# Altium schematic symbol library PBL - Inductors.SCHLIB: 28 symbols
Pins are listed as number, name and electrical type; pins without a type are passive.

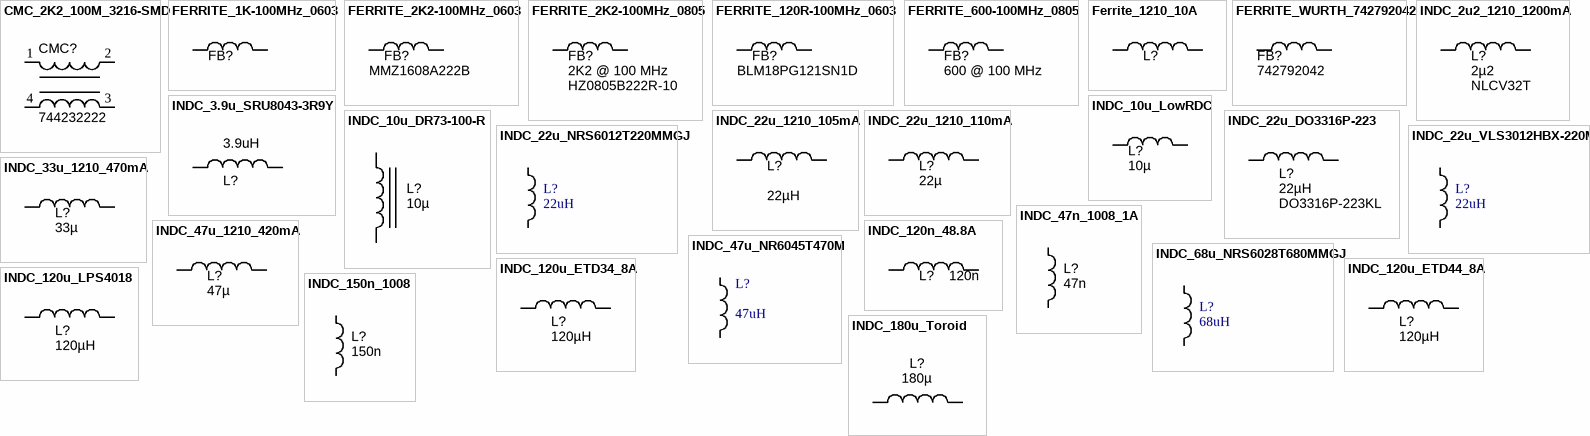
[diagram p0: symbols CMC_2K2_100M_3216-SMD to INDC_180u_Toroid]

## CMC_2K2_100M_3216-SMD
designator CMC?, comment 744232222
Common Mode Choke 2.2K Ohm 1206 SMD; Manufacturer 1: Wurth Electronics Inc; Impedance: 2200 Ohm at 100 MHz; Ratings: 2.2k Ohms at 100MHz; SCDType: source; PackageDescription: SMD Inductor, 4-Leads, Body 1.8 x 3.4 mm; Supplier 1: Digi-Key; Supplier Part Number 1: 732-1474-1-ND; ComponentLink1URL: http://katalog.we-online.de/kataloge/eisos/media/pdf/744232222.pdf; ComponentLink1Description: 744232222 datasheet; Manufacturer Part Number 1: 744232222; Package / Case: Horizontal, 4 PC Pad; Height (Max): 0.083" (2.10mm)
footprint CHOKE_CM_1206SMD (Common-mode choke, Body 3.4x1.8x2.2mm)
pins: 1, 2, 3, 4

## FERRITE_1K-100MHz_0603
designator FB?, comment MPZ1608S102ATA00  (value not drawn)
1 kOhm Impedance Ferrite Bead 0603 (1608 Metric) Surface Mount Power Line 800mA 1 Lines 300 mOhm Max DCR -55°C ~ 125°C; Supplier 1: Digi-Key; Supplier Part Number 1: 445-8694-1-ND
footprint FBC1608X95N (Chip Ferrite, Body 1.6x0.8mm, 0603, IPC Medium Density)
pins: 1, 2

## FERRITE_2K2-100MHz_0603
designator FB?, comment Manufacturer Part Number 1: MMZ1608A222B  (hidden comment: 2K2 @ 100 MHz)
Ferrite bead 2.2K Ohm at 100 MHz 200mA 0603 SMD; Manufacturer 1: TDK Corporation; Ratings: 200 mA; 800 mOhm DC; Impedance @ Frequency: 2200 Ohm @ 100MHz; DC Resistance (DCR): 800 mOhm Max; Filter Type: Differential Mode - Single; SCDType: source; Size / Dimension: 0.063" L x 0.031" W (1.60mm x 0.80mm); Current Rating: 200mA; Package / Case: 0603 (1608 Metric); Height (Max): 0.037" (0.95mm); Mounting Type: Surface Mount; Supplier 1: Digi-Key; Supplier Part Number 1: 445-8671-1-ND; RoHS 1: RoHS Compliant; ComponentLink1URL: http://www.tdk.co.jp/tefe02/e9412_mmz.pdf; ComponentLink1Description: http://www.tdk.co.jp/tefe02/e9412_mmz.pdf; Value: 2K2 @ 100 MHz
footprint FBC1608X95N (Chip Ferrite, Body 1.6x0.8mm, 0603, IPC Medium Density)
pins: 1, 2

## FERRITE_2K2-100MHz_0805
designator FB?, comment Manufacturer Part Number 1: HZ0805B222R-10  (hidden comment: 2K2 @ 100 MHz)
Ferrite bead 2.2K Ohm at 100 MHz 200mA 0805 SMD; Manufacturer 1: Laird-Signal Integrity Products; Ratings: 200 mA; 800 mOhm DC; Impedance @ Frequency: 600 Ohm @ 100MHz; DC Resistance (DCR): 800 mOhm Max; Filter Type: Differential Mode - Single; SCDType: source; Size / Dimension: 0.063" L x 0.031" W (1.60mm x 0.80mm); Current Rating: 200mA; Package / Case: 0805 (2012 Metric); Height (Max): 0.043" (1.09mm); ComponentLink1URL: http://www.lairdtech.com/WorkArea/linkit.aspx?LinkIdentifier=id&ItemID=4879; ComponentLink1Description: http://www.lairdtech.com/WorkArea/linkit.aspx?LinkIdentifier=id&ItemID=4879; Supplier 1: Digi-Key; Supplier Part Number 1: 240-2562-1-ND; Mounting Type: Surface Mount; Value: 2K2 @ 100 MHz
footprint FBC2012N (Ferrite Bead Chip, Body 2.0x1.2mm, 0805, IPC Medium Density)
pins: 1, 2

## FERRITE_120R-100MHz_0603
designator FB?, comment Manufacturer Part Number 1: BLM18PG121SN1D  (hidden comment: 120R @ 100 MHz)
Ferrite bead 120 Ohm at 100 MHz 2A 0603 SMD; Manufacturer 1: Murata Electronics North America; Current: 900mA; DC Resistance (DCR): 172.9 mOhm Max; Frequency - Self Resonant: 23MHz; Frequency - Test: 100kHz; Impedance @ Frequency: 120 Ohm @ 100MHz; Filter Type: Differential Mode - Single; Number of Lines: 1; Ratings: 2 A; 50 mO DC; SCDType: source; Current - Saturation: 900mA; Current - Temperature Rise: 900mA; Applications: Power Supplies; Package / Case: 1210 (3225 Metric); Operating Temperature: -40°C ~ 105°C; ComponentLink1URL: http://www.yuden.co.jp/ut/product/pdf/wound02_e.pdf; ComponentLink1Description: http://www.yuden.co.jp/ut/product/pdf/wound02_e.pdf; Supplier 1: Digi-Key; Supplier Part Number 1: 490-1037-1-ND; Current Rating: 2A; Mounting Type: Surface Mount; Height (Max): 0.037" (0.95mm); Size / Dimension: 0.063" L x 0.031" W (1.60mm x 0.80mm); ComponentLink2URL: http://search.murata.co.jp/Ceramy/image/img/PDF/ENG/L0110S0100BLM18P.pdf; ComponentLink2Description: http://search.murata.co.jp/Ceramy/image/img/PDF/ENG/L0110S0100BLM18P.pdf; Value: 120R @ 100 MHz
footprint INDC1608N (Chip bead, Body 1.6x0.8mm, 0603, IPC Medium Density)
pins: 1, 2

## FERRITE_600-100MHz_0805
designator FB?, comment value 600 @ 100 MHz  (hidden comment: MPZ2012S601AT000)
Ferrite bead 600 Ohm at 100 MHz 2A 0805 SMD; Ratings: 2 A; 100 mOhm DC; Impedance @ Frequency: 600 Ohm @ 100MHz; DC Resistance (DCR): 100 mOhm Max; Filter Type: Differential Mode - Single; SCDType: source; Size / Dimension: 0.063" L x 0.031" W (1.60mm x 0.80mm); Current Rating: 2A; Package / Case: 0805 (2012 Metric); Height (Max): 0.043" (1.09mm); ComponentLink1URL: http://www.lairdtech.com/WorkArea/linkit.aspx?LinkIdentifier=id&ItemID=4879; ComponentLink1Description: http://www.lairdtech.com/WorkArea/linkit.aspx?LinkIdentifier=id&ItemID=4879; Mounting Type: Surface Mount; Supplier 1: Digi-Key; Supplier Part Number 1: 445-2206-1-ND
footprint RESC2012X70N (Chip Resistor, Body 2.0x1.2mm, EIA 0805, IPC Medium Density)
pins: 1, 2

## Ferrite_1210_10A
designator L?, comment BRL3225T330K  (value not drawn)
FERRITE BEAD 30 OHM 1210 1LN; Manufacturer: Murata Electronics North America; Manufacturer Part Number: BLE32PN300SN1L; Filter Type: Power Line; Current Rating (Max): 10A; DC Resistance (DCR) (Max): 1.6 mOhm; Supplier 1: Digi-Key; Supplier Part Number 1: 490-9566-1-ND; RoHS: RoHS Compliant; Category: Filters; Stock 1: 52658; Pricing 1: 1=0.84, 10=0.756, 25=0.5604, 50=0.5324, 100=0.4763, 250=0.44828, 500=0.42026 (USD); Packaging: Cut Tape (CT); Part Status: Active; Ratings: -; Operating Temperature: -55°C ~ 125°C; Package / Case: 1210 (3225 Metric); Mounting Type: Surface Mount; Height (Max): 0.087" (2.20mm); Size / Dimension: 0.126" L x 0.098" W (3.20mm x 2.50mm); ComponentLink1URL: https://www.murata.com/en-us/products/productdata/8796742844446/ENFA0047.pdf; ComponentLink1Description: https://www.murata.com/en-us/products/productdata/8796742844446/ENFA0047.pdf
footprint INDC3225X170N (Chip Inductor, 2-Leads, Body 3.2x2.5mm, IPC Medium Density)
pins: 1, 2

## FERRITE_WURTH_742792042
designator FB?, comment Manufacturer Part Number 1: 742792042  (hidden comment: 600R @ 100 MHz)
Ferrite bead Wurth 742792042 SMD 200mA 0805; Manufacturer 1: WURTH ELEKTRONIK; Ratings: 200 mA; 500 mOhm DC; Impedance @ Frequency: 600 Ohm @ 100MHz; DC Resistance (DCR): 500 mOhm Max; Filter Type: Differential Mode - Single; SCDType: source; Size / Dimension: 0.063" L x 0.031" W (1.60mm x 0.80mm); Current Rating: 200mA; Package / Case: 0805 (2012 Metric); Height (Max): 0.041" (1.05mm); Value: 600R @ 100 MHz; Supplier 1: Newark; Supplier Part Number 1: 08P2373; ComponentLink1URL: http://katalog.we-online.de/kataloge/eisos/media/pdf/742792042.pdf; ComponentLink1Description: http://katalog.we-online.de/kataloge/eisos/media/pdf/742792042.pdf
footprint FBC2012N (Ferrite Bead Chip, Body 2.0x1.2mm, 0805, IPC Medium Density)
pins: 1, 2

## INDC_2u2_1210_1200mA
designator L?, comment NLCV32T  value 2µ2
Inductor 2.2uH 1.2A 1210 SMD chip; Manufacturer 1: TDK Corporation; Manufacturer Part Number 1: NLCV32T-2R2M-PFR; Ratings: 1.2 Adc; Tolerance: ±20%; Type: Ferrite Core; DC Resistance (DCR): 115 mOhm; Q @ Freq: 15 @ 7.96MHz; Frequency - Self Resonant: 68MHz; Frequency - Test: 7.96MHz; SCDType: source; Package / Case: 1210 (3225 Metric); Supplier 1: Digi-Key; Supplier Part Number 1: 445-3650-1-ND; ComponentLink1URL: http://www.tdk.co.jp/tefe02/e511_nlcv_nlc.pdf; ComponentLink1Description: http://www.tdk.co.jp/tefe02/e511_nlcv_nlc.pdf; Operating Temperature: -40°C ~ 125°C
footprint INDM3225X240N (Molded Inductor, 2-Leads, Body 3.2x2.5mm, IPC Medium Density)
pins: 1, 2

## INDC_3.9u_SRU8043-3R9Y
designator L?, comment value 3.9uH  (hidden comment: SRU8043-3R9Y)
Inductor shielded 3.9uH SRU8043-3R9Y; Tolerance: ±30%; Type: Ferrite Core; Supplier 1: Digi-Key; Supplier Part Number 1: SRU8043-3R9YCT-ND
footprint Inductor_SRU8043
pins: 1, 2

## INDC_10u_DR73-100-R
designator L?, comment 10µ
Inductor Power 10µH 2.1A 7.6x7.6mm SMD; Manufacturer 1: Cooper Bussmann; Manufacturer Part Number 1: DR73-100-R; Tolerance: ±20%; Material: ferrite shielded; SCDType: spec; Package / Case: 5.0x5.0x4.5mm; Ratings: 2.1 A; Supplier 1: Digi-Key; Supplier Part Number 1: 513-1129-1-ND; ComponentLink1URL: http://www.cooperindustries.com/content/dam/public/bussmann/Electronics/Resources/Data%20Sheets/Bus_Elx_DS_4315_DR_Series.pdf; ComponentLink1Description: http://www.cooperindustries.com/content/dam/public/bussmann/Electronics/Resources/Data%20Sheets/Bus_Elx_DS_4315_DR_Series.pdf; Value: 10µ
footprint IND_WW_DR73 (Wire-wound power inductor, Cooper Bussmann DR73 series, IPC Medium Density)
pins: 1, 2

## INDC_10u_LowRDC
designator L?, comment 10µ
Inductor SMD Low DCR 10 µH 900mA 20% 1210; Manufacturer 1: Taiyo Yuden; Manufacturer Part Number 1: CBC3225T100MR; Ratings: 900 mA; 133 mOhm; DC Resistance (DCR): 172.9 mOhm Max; Frequency - Self Resonant: 23MHz; Frequency - Test: 100kHz; SCDType: spec; Tolerance: ±20%; Supplier 1: Digi-Key; Supplier Part Number 1: 587-1625-1-ND; Current: 900mA; Current - Saturation: 900mA; Current - Temperature Rise: 900mA; Applications: Power Supplies; Package / Case: 1210 (3225 Metric); Operating Temperature: -40°C ~ 105°C; ComponentLink1URL: http://www.yuden.co.jp/ut/product/pdf/wound02_e.pdf; ComponentLink1Description: http://www.yuden.co.jp/ut/product/pdf/wound02_e.pdf; Value: 10µ
footprint INDC3225X250N (Chip Inductor, 2-Leads, Body 3.2x2.5mm, IPC Medium Density)
pins: 1, 2

## INDC_22u_1210_105mA
designator L?, comment 22µH
Inductor 22uH 105mA 1210 SMD chip; Manufacturer 1: Panasonic - ECG; Manufacturer Part Number 1: ELJ-FA220KF; Ratings: 105 mAdc; Tolerance: ±10%; Value: 22µ; Type: Ferrite Core; DC Resistance (DCR): 3.7 Ohm Max; Q @ Freq: 30 @ 2.52MHz; Frequency - Self Resonant: 25MHz; Frequency - Test: 2.52MHz; Material - Core: Ferrite; SCDType: source; Package / Case: 1210 (3225 Metric); Supplier 1: Digi-Key; Supplier Part Number 1: PCD1024CT-ND; ComponentLink1URL: http://industrial.panasonic.com/www-cgi/jvcr13pz.cgi?E+PZ+3+AGA0031+ELJFA220KF+7+WW; ComponentLink1Description: http://industrial.panasonic.com/www-cgi/jvcr13pz.cgi?E+PZ+3+AGA0031+ELJFA220KF+7+WW
footprint INDM3225X240N (Molded Inductor, 2-Leads, Body 3.2x2.5mm, IPC Medium Density)
pins: 1, 2

## INDC_22u_1210_110mA
designator L?, comment value 22µ  (hidden comment: SMD-322522)
Inductor 22uH 110mA 1210 SMD chip; Manufacturer 1: 3L; Manufacturer Part Number 1: SMD-322522-220K; Ratings: 110 mAdc; Tolerance: ±10%; Type: Ferrite Core; DC Resistance (DCR): 3.7 Ohm; Q @ Freq: 30 @ 2.52MHz; Frequency - Self Resonant: 20MHz; Frequency - Test: 2.52MHz; SCDType: source; Package / Case: 1210 (3225 Metric); Operating Temperature: -20°C ~ 80°C; Supplier 1: APlus Products; Supplier Part Number 1: SMD-322522-220K
footprint INDM3225X240N (Molded Inductor, 2-Leads, Body 3.2x2.5mm, IPC Medium Density)
pins: 1, 2

## INDC_22u_DO3316P-223
designator L?, comment 22µH  Manufacturer Part Number 1: DO3316P-223KL
Inductor Power SMD 22µH; Manufacturer 1: Coilcraft; Ratings: 2.3 Adc; Tolerance: ±10%; Value: 22µ; SCDType: spec; Package / Case: 12.95x9.4mm
footprint IND_Coilcraft_DO3316P_SM (Wire-wound Power Inductor, 2-Leads, Body 12.95x9.4mm)
pins: 1, 2

## INDC_22u_NRS6012T220MMGJ
designator L?, comment Inductance: 22uH  (hidden comment: NRS6012T220MMGJ)
22µH Shielded Wirewound Inductor 650mA 558 mOhm Max Nonstandard; Manufacturer: Taiyo Yuden; Core Material: Ferrite; Tolerance: 20%; Self Resonant Frequency: 12MHz; DC Resistance (DCR): 465mR; Max DC Current: 760mA; Test Frequency: 100kHz; ComponentLink1URL: https://datasheet.ciiva.com/8504/nr6045t470m-ss-8504355.pdf; ComponentLink1Description: https://datasheet.ciiva.com/8504/nr6045t470m-ss-8504355.pdf; ComponentLink2URL: https://datasheet.ciiva.com/23806/1750149-23806695.pdf; ComponentLink2Description: https://datasheet.ciiva.com/23806/1750149-23806695.pdf; ComponentLink3URL: https://datasheet.ciiva.com/6701/wound04-e-6701016.pdf; ComponentLink3Description: https://datasheet.ciiva.com/6701/wound04-e-6701016.pdf; ComponentLink4URL: https://datasheet.ciiva.com/6701/wound04-e-6701018.pdf; ComponentLink4Description: https://datasheet.ciiva.com/6701/wound04-e-6701018.pdf; ComponentLink5URL: https://datasheet.ciiva.com/4955/wound04-e-4955355.pdf; ComponentLink5Description: https://datasheet.ciiva.com/4955/wound04-e-4955355.pdf; ComponentLink6URL: https://datasheet.ciiva.com/6701/wound04-e-6701020.pdf; ComponentLink6Description: https://datasheet.ciiva.com/6701/wound04-e-6701020.pdf; ComponentLink7URL: https://datasheet.ciiva.com/26793/nr6045t470m-26793596.pdf; ComponentLink7Description: https://datasheet.ciiva.com/26793/nr6045t470m-26793596.pdf; ComponentLink8URL: https://datasheet.ciiva.com/25607/0900766b810b3cd2-25607093.pdf; ComponentLink8Description: https://datasheet.ciiva.com/25607/0900766b810b3cd2-25607093.pdf; ComponentLink9URL: https://datasheet.ciiva.com/4956/wound04-e-4956679.pdf; ComponentLink9Description: https://datasheet.ciiva.com/4956/wound04-e-4956679.pdf; ComponentLink10URL: https://datasheet.ciiva.com/6701/nrs6028t680mmgj-ss-6701003.pdf; ComponentLink10Description: https://datasheet.ciiva.com/6701/nrs6028t680mmgj-ss-6701003.pdf; ComponentLink11URL: https://datasheet.ciiva.com/22715/1909430-22715261.pdf; ComponentLink11Description: https://datasheet.ciiva.com/22715/1909430-22715261.pdf; Supplier 1: Digi-Key; Supplier Part Number 1: 587-2916-6-ND; Stock 1: 6500; Pricing 1: 1=0.38, 10=0.341, 100=0.2344, 500=0.2003 (USD); Mount: Surface Mount; Case/Package: 6012; Number of Pins: 2; Min Operating Temperature: -25°C; Max Operating Temperature: 125°C; Packaging: Tape and Reel; Package Quantity: 1; Current Rating: 650mA; Saturation Current: 760mA; Shielding: Shielded; Composition: Wirewound; Termination: SMD/SMT; Inductance Tolerance: 20%; RMS Current (Irms): 650mA; Length: 6mm; Height: 1.2mm; Width: 0.236inch; Height - Seated (Max): 0.047inch; Depth: 6.2mm; Lead Pitch: 4.7mm; Radiation Hardening: No; Halogen Free: Halogen Free; REACH SVHC: Unknown; Lead Free: Lead Free; ComponentLink12URL: https://datasheet.ciiva.com/25607/0900766b810b3cd2-25607152.pdf; ComponentLink12Description: https://datasheet.ciiva.com/25607/0900766b810b3cd2-25607152.pdf; ComponentLink13URL: https://datasheet.ciiva.com/1056/nrs6012t220mmgj-ss-1056379.pdf; ComponentLink13Description: https://datasheet.ciiva.com/1056/nrs6012t220mmgj-ss-1056379.pdf; ComponentLink14URL: https://datasheet.ciiva.com/22710/1909430-22710347.pdf; ComponentLink14Description: https://datasheet.ciiva.com/22710/1909430-22710347.pdf; ComponentLink15URL: https://datasheet.ciiva.com/8502/nrs6012t220mmgj-ss-8502780.pdf; ComponentLink15Description: https://datasheet.ciiva.com/8502/nrs6012t220mmgj-ss-8502780.pdf; Manufacturer Part Number: NRS6012T220MMGJ
footprint INDP6060X45N (Precision Wire Wound Inductor, 2-Leads, Body 6.00x6.00mm, IPC Medium Density)
pins: 1, 2

## INDC_22u_VLS3012HBX-220M
designator L?, comment Inductance: 22uH  (hidden comment: VLS3012HBX-220M)
22µH Shielded Wirewound Inductor 1.12A 761 mOhm Max Nonstandard; Manufacturer: TDK Corporation; Description: FIXED IND 22UH 1.12A 761 MOHM; Material - Core: Metal; Tolerance: ±20%; Current - Saturation: 1.09A; Supplier 1: Digi-Key; Supplier Part Number 1: 445-175075-1-ND; RoHS: RoHS Compliant; Category: Inductors, Coils, Chokes; Stock 1: 1680; Pricing 1: 1=0.76, 10=0.667, 100=0.4761, 500=0.39992, 1000=0.32375 (USD); Packaging: Cut Tape (CT); Part Status: Active; Type: Wirewound; Shielding: Shielded; DC Resistance (DCR): 761 mOhm Max; Q @ Freq: -; Frequency - Self Resonant: -; Ratings: -; Operating Temperature: -40°C ~ 105°C; Features: -; Mounting Type: Surface Mount; Package / Case: Nonstandard; Supplier Device Package: -; Size / Dimension: 0.118" L x 0.118" W (3.00mm x 3.00mm); Height - Seated (Max): 0.047" (1.20mm); ComponentLink1URL: https://product.tdk.com/info/en/catalog/datasheets/inductor_commercial_power_vls3012hbx_en.pdf; ComponentLink1Description: https://product.tdk.com/info/en/catalog/datasheets/inductor_commercial_power_vls3012hbx_en.pdf; Manufacturer Part Number: VLS3012HBX-220M
footprint INDP3030X12N (Precision Wire Wound Inductor, 2-Leads, Body 3.00x3.00mm, IPC Medium Density)
pins: 1, 2

## INDC_33u_1210_470mA
designator L?, comment value 33µ  (hidden comment: BRL3225T330K)
Inductor 33uH 470mA 1210 SMD chip; Manufacturer 1: Taiyo Yuden; Ratings: 470 mAdc; Tolerance: ±10%; Type: Ferrite Core; DC Resistance (DCR): 1.008 Ohm; Frequency - Self Resonant: 9MHz; Frequency - Test: 100kHz; SCDType: source; Package / Case: 1210 (3225 Metric); Operating Temperature: -40°C ~ 105°C; Supplier 1: Digi-Key; Supplier Part Number 1: 587-3029-1-ND; Manufacturer Part Number 1: BRL3225T330K; ComponentLink1URL: http://www.yuden.co.jp/ut/product/category/inductor/BRL3225T330K.pdf; ComponentLink1Description: http://www.yuden.co.jp/ut/product/category/inductor/BRL3225T330K.pdf
footprint INDC3225X170N (Chip Inductor, 2-Leads, Body 3.2x2.5mm, IPC Medium Density)
pins: 1, 2

## INDC_47n_1008_1A
designator L?, comment 47n
Inductor SMD chip 47nH 1008; Manufacturer 1: Abracon Corporation; Manufacturer Part Number 1: AISC-1008-R047J-T; Ratings: 1 A; Tolerance: ±5%; Material: Ceramic; DC Resistance (DCR): 160 mOhm Max; SCDType: source; Package / Case: 1008 (2520 Metric); Supplier 1: Digi-Key; Supplier Part Number 1: 535-10535-1-ND; Value: 47n
footprint INDM2520X190N (Inductor, molded body 2.5x2.0mm)
pins: 1, 2

## INDC_47u_1210_420mA
designator L?, comment value 47µ  (hidden comment: BRL3225T470K)
Inductor 47uH 420mA 1210 SMD chip; Manufacturer 1: Taiyo Yuden; Ratings: 420 mAdc; Tolerance: ±10%; Type: Ferrite Core; DC Resistance (DCR): 1.2 Ohm; Frequency - Self Resonant: 7MHz; Frequency - Test: 100kHz; SCDType: source; Package / Case: 1210 (3225 Metric); Operating Temperature: -40°C ~ 105°C; Supplier 1: Digi-Key; Supplier Part Number 1: 587-2169-1-ND; Manufacturer Part Number 1: BRL3225T470K; ComponentLink1URL: http://www.yuden.co.jp/ut/product/category/inductor/BRL3225T470K.pdf; ComponentLink1Description: http://www.yuden.co.jp/ut/product/category/inductor/BRL3225T470K.pdf
footprint INDC3225X170N (Chip Inductor, 2-Leads, Body 3.2x2.5mm, IPC Medium Density)
pins: 1, 2

## INDC_47u_NR6045T470M
designator L?, comment Inductance: 47uH  (hidden comment: NR6045T470M)
47µH Shielded Wirewound Inductor 1.1A 286 mOhm Max Nonstandard; Manufacturer: Taiyo Yuden; Core Material: Ferrite; Self Resonant Frequency: 5MHz; Tolerance: 20%; DC Resistance (DCR): 286mR; Test Frequency: 100kHz; Max DC Current: 1.3A; Supplier 1: Digi-Key; Supplier Part Number 1: 587-2083-6-ND; Stock 1: 27373; Pricing 1: 1=0.41, 10=0.363, 100=0.2498, 500=0.2135 (USD); Mount: Surface Mount; Case/Package: Nonstandard; Number of Pins: 2; Min Operating Temperature: -25°C; Max Operating Temperature: 120°C; Packaging: Tape and Reel; Package Quantity: 1500; Current Rating: 1.1A; Shielding: Shielded; Composition: Wirewound; Termination: SMD/SMT; Saturation Current: 1.3A; Inductance Tolerance: 20%; RMS Current (Irms): 1.1A; Length: 0.236inch; Height: 4.5mm; Width: 0.236inch; Height - Seated (Max): 0.177inch; Depth: 6.2mm; Radiation Hardening: No; Halogen Free: Halogen Free; REACH SVHC: Unknown; ComponentLink1URL: https://datasheet.ciiva.com/8504/nr6045t470m-ss-8504355.pdf; ComponentLink1Description: https://datasheet.ciiva.com/8504/nr6045t470m-ss-8504355.pdf; ComponentLink2URL: https://datasheet.ciiva.com/23806/1750149-23806695.pdf; ComponentLink2Description: https://datasheet.ciiva.com/23806/1750149-23806695.pdf; ComponentLink3URL: https://datasheet.ciiva.com/6701/wound04-e-6701016.pdf; ComponentLink3Description: https://datasheet.ciiva.com/6701/wound04-e-6701016.pdf; ComponentLink4URL: https://datasheet.ciiva.com/6701/wound04-e-6701018.pdf; ComponentLink4Description: https://datasheet.ciiva.com/6701/wound04-e-6701018.pdf; ComponentLink5URL: https://datasheet.ciiva.com/4955/wound04-e-4955355.pdf; ComponentLink5Description: https://datasheet.ciiva.com/4955/wound04-e-4955355.pdf; ComponentLink6URL: https://datasheet.ciiva.com/6701/wound04-e-6701020.pdf; ComponentLink6Description: https://datasheet.ciiva.com/6701/wound04-e-6701020.pdf; ComponentLink7URL: https://datasheet.ciiva.com/26793/nr6045t470m-26793596.pdf; ComponentLink7Description: https://datasheet.ciiva.com/26793/nr6045t470m-26793596.pdf; Manufacturer Part Number: NR6045T470M
footprint INDP6060X45N (Precision Wire Wound Inductor, 2-Leads, Body 6.00x6.00mm, IPC Medium Density)
pins: 1, 2

## INDC_68u_NRS6028T680MMGJ
designator L?, comment Inductance: 68uH  (hidden comment: NRS6028T680MMGJ)
68µH Shielded Wirewound Inductor 770mA 546 mOhm Max Nonstandard; Manufacturer: Taiyo Yuden; Core Material: Ferrite; Self Resonant Frequency: 5MHz; Tolerance: 20%; Saturation Current: 800mA; DC Resistance (DCR): 420mR; Test Frequency: 100kHz; ComponentLink1URL: https://datasheet.ciiva.com/8504/nr6045t470m-ss-8504355.pdf; ComponentLink1Description: https://datasheet.ciiva.com/8504/nr6045t470m-ss-8504355.pdf; ComponentLink2URL: https://datasheet.ciiva.com/23806/1750149-23806695.pdf; ComponentLink2Description: https://datasheet.ciiva.com/23806/1750149-23806695.pdf; ComponentLink3URL: https://datasheet.ciiva.com/6701/wound04-e-6701016.pdf; ComponentLink3Description: https://datasheet.ciiva.com/6701/wound04-e-6701016.pdf; ComponentLink4URL: https://datasheet.ciiva.com/6701/wound04-e-6701018.pdf; ComponentLink4Description: https://datasheet.ciiva.com/6701/wound04-e-6701018.pdf; ComponentLink5URL: https://datasheet.ciiva.com/4955/wound04-e-4955355.pdf; ComponentLink5Description: https://datasheet.ciiva.com/4955/wound04-e-4955355.pdf; ComponentLink6URL: https://datasheet.ciiva.com/6701/wound04-e-6701020.pdf; ComponentLink6Description: https://datasheet.ciiva.com/6701/wound04-e-6701020.pdf; ComponentLink7URL: https://datasheet.ciiva.com/26793/nr6045t470m-26793596.pdf; ComponentLink7Description: https://datasheet.ciiva.com/26793/nr6045t470m-26793596.pdf; Supplier 1: Digi-Key; Supplier Part Number 1: 587-2944-6-ND; Stock 1: 1895; Pricing 1: 1=0.41, 10=0.363, 100=0.2498, 500=0.2135, 1000=0.1635 (USD); Mount: Surface Mount; Case/Package: Nonstandard; Number of Pins: 2; Min Operating Temperature: -25°C; Max Operating Temperature: 125°C; Packaging: Tape and Reel; Current Rating: 770mA; Shielding: Shielded; Composition: Wirewound; Package Quantity: 2000; Inductance Tolerance: 20%; Max DC Current: 800mA; Termination: SMD/SMT; RMS Current (Irms): 770mA; Length: 6mm; Height: 2.8mm; Width: 6mm; Height - Seated (Max): 0.11inch; Depth: 6.2mm; Radiation Hardening: No; REACH SVHC: Unknown; Lead Free: Lead Free; Halogen Free: Halogen Free; ComponentLink8URL: https://datasheet.ciiva.com/25607/0900766b810b3cd2-25607093.pdf; ComponentLink8Description: https://datasheet.ciiva.com/25607/0900766b810b3cd2-25607093.pdf; ComponentLink9URL: https://datasheet.ciiva.com/4956/wound04-e-4956679.pdf; ComponentLink9Description: https://datasheet.ciiva.com/4956/wound04-e-4956679.pdf; ComponentLink10URL: https://datasheet.ciiva.com/6701/nrs6028t680mmgj-ss-6701003.pdf; ComponentLink10Description: https://datasheet.ciiva.com/6701/nrs6028t680mmgj-ss-6701003.pdf; ComponentLink11URL: https://datasheet.ciiva.com/22715/1909430-22715261.pdf; ComponentLink11Description: https://datasheet.ciiva.com/22715/1909430-22715261.pdf; Manufacturer Part Number: NRS6028T680MMGJ
footprint INDP6060X45N (Precision Wire Wound Inductor, 2-Leads, Body 6.00x6.00mm, IPC Medium Density)
pins: 1, 2

## INDC_120n_48.8A
designator L?, comment value 120n  (hidden comment: SLR1050B-121KE_)
Power Inductor 120nH 48.8A; Tolerance: 10±; DCR: 0.47; Manufacturer Part Number: SLR1050B-121KE_
footprint SLR1050 (SLR1050 Series High Current  Shielded Power Inductors)
pins: 1, 2

## INDC_120u_ETD34_8A
designator L?, comment 120µH
Custom Wound ETD34; Ferrite Manufacturer Part Number: B66361G1000X187; Bobbin Manufacturer Part Number: B66362X1014T001; Clip Manufacturer Part Number: B66362A2000X000; Manufacturer: EPCOS (TDK); Tolerance: ±10%; Turns: 27; Wire Gauge: 12 AWG; Accessory Type: Bobbin (Coil Former), Vertical; For Use With/Related Products: ETD; Value: 120µH; Supplier 1: Digi-Key; Supplier Part Number 1: 495-5466-ND; RoHS: RoHS Compliant; Category: Magnetics - Transformer, Inductor Components; Stock 1: 176; Pricing 1: 1=2.09, 10=1.79, 25=1.3428, 50=1.3056, 100=1.1563, 250=1.08172, 500=1.0071, 1000=0.9325 (USD); Part Status: Active; Supplier Device Package: ETD 34 x 17 x 11; ComponentLink1URL: https://product.tdk.com/info/en/documents/data_sheet/etd_34_17_11.pdf; ComponentLink1Description: https://product.tdk.com/info/en/documents/data_sheet/etd_34_17_11.pdf; Manufacturer Part Number: B66362X1014T001
footprint ETD34 Vertical (BOBBIN COIL FORMER ETD 34X17X11)
pins: 1, 2

## INDC_120u_ETD44_8A
designator L?, comment 120µH
Custom Wound ETD44; Bobbin Manufacturer Part Number: B66366B1018T001; Manufacturer: EPCOS (TDK); Tolerance: ±10%; Wire Gauge: 12 AWG; Accessory Type: Bobbin (Coil Former), Horizontal; For Use With/Related Products: ETD; Value: 120µH; Supplier 1: Digi-Key; Supplier Part Number 1: 495-5481-ND; RoHS: RoHS Compliant; Category: Magnetics - Transformer, Inductor Components; Stock 1: 901; Pricing 1: 1=2.23, 10=1.915, 25=1.4364, 50=1.3966, 100=1.2369, 250=1.15712, 500=1.0773, 1000=0.9975 (USD); Part Status: Active; Supplier Device Package: ETD 44 x 22 x 15; ComponentLink1URL: https://product.tdk.com/info/en/documents/data_sheet/etd_44_22_15.pdf; ComponentLink1Description: https://product.tdk.com/info/en/documents/data_sheet/etd_44_22_15.pdf; Manufacturer Part Number: B66366B1018T001
footprint ETD 44 Horizontal
pins: 1, 2

## INDC_120u_LPS4018
designator L?, comment 120µH
Inductor shielded 120uH 300mA LPS4018 SMD; Manufacturer 1: Coilcraft; Manufacturer Part Number 1: LPS4018-124ML; Ratings: 300 mArms; Tolerance: ±20%; Value: 120µ; Type: Ferrite Core; DC Resistance (DCR): 1.6 Ohm Max; Frequency - Self Resonant: 9MHz; Frequency - Test: 100kHz; Material - Core: Ferrite; SCDType: spec; Package / Case: LPS4018; Current: 300mA; Supplier 1: Coilcraft; Supplier Part Number 1: LPS4018-124MLC
footprint IND_COILCRAFT_LPS4018 (Shielded Power Inductor, Body 4.0x4.0x1.8mm)
pins: 1, 2

## INDC_150n_1008
designator L?, comment 150n
Inductor SMD chip 150nH 1008; Manufacturer 1: TDK Corporation; Manufacturer Part Number 1: NLV25T-R15J-PF; Ratings: 500 mA; Tolerance: ±5%; SCDType: spec; Package / Case: 1008 (2520 Metric); Supplier 1: Digi-Key; Supplier Part Number 1: 445-1715-1-ND; Value: 150n
footprint INDM2520X190N (Inductor, molded body 2.5x2.0mm)
pins: 1, 2

## INDC_180u_Toroid
designator L?  value 180µ  (hidden comment: *)
Power Inductor 180µH 10% SMD Toroid; Manufacturer 1: JW Miller A Bourns Company; Manufacturer Part Number 1: PM2110-181K-RC; Ratings: 3.7A; SCDType: spec; Package / Case: 1.200" L x 1.000" W x 0.530" H; Tolerance: ±10%; Supplier 1: Digi-Key; Supplier Part Number 1: M8769-ND; Current: 3.7A
footprint IND_SMD_TOROID_1.2x1.0in (Inductor, Toroid, 30.5mm L x 25.4mm W x 13.5mm T)
pins: 1, 2